# Altium footprint library SM_L_1812.PcbLib: 1 footprints
Each footprint in its own frame and in the unit in brackets; x right, y up, seen from the top. Pads: shape width x height; smd on the part's side, far side on the other; paste and mask are expansions set on the pad; w line width, h text height; cw(c..) or ccw(c..) is an arc to the next point about the centre after c.
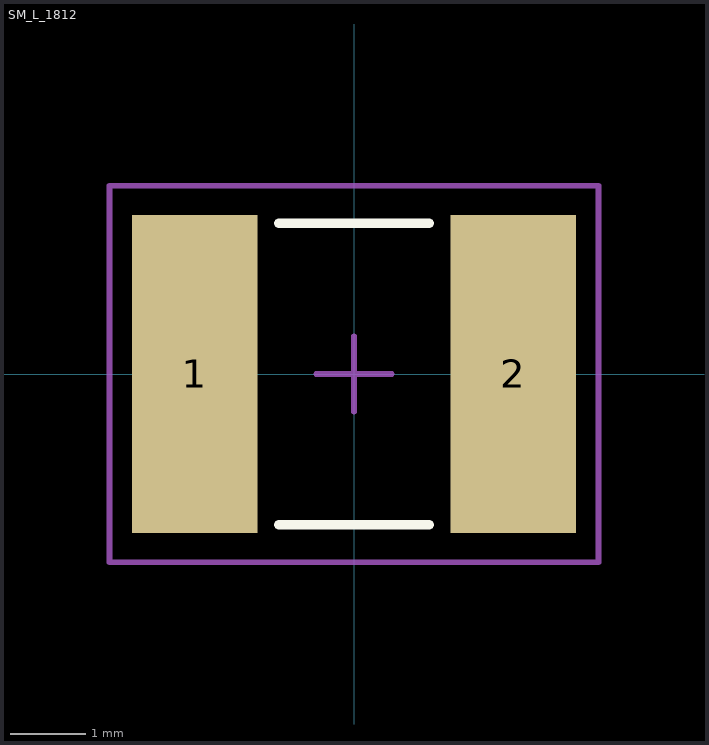
[diagram p0: the footprint, top view; thin cyan lines are the x and y axes]

## SM_L_1812 [mm] "Chip Inductor, Body 4.5x3.2mm, Height 2.3mm"
height 1.6
pads (2):
  rect 1.665x4.22 smd: 1(-2.117,0) 2(2.117,0)
Top Overlay:
  lines w0.127: -1,-2 1,-2 ; -1,2 1,2
Mechanical 15:
  lines w0.076: -0.5,0 0.5,0 ; 0,-0.5 0,0.5 ; -3.25,-2.5 -3.25,0.5 -3.25,2.5 3.25,2.5 3.25,-2.5 -3.25,-2.5
3D body: height 2.57, standoff 0, extent 1.725,-1.75 2.4,1.75
3D body: height 2.57, standoff 0, extent -2.4,-1.75 -1.725,1.75
3D body: height 2.55, standoff 0, extent -2.375,-1.725 2.375,1.725